# Altium schematic symbol library IND(1.5uH, 1.7A, 100mOhm, 140Mhz, SMD).SchLib: 1 symbol
Pins are listed as number, name and electrical type; pins without a type are passive.

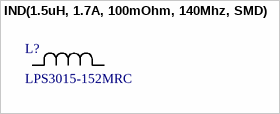
[diagram p0: symbol IND(1.5uH, 1.7A, 100mOhm, 140Mhz, SMD)]

## IND(1.5uH, 1.7A, 100mOhm, 140Mhz, SMD)
designator L?, comment LPS3015-152MRC
No Description Available; Manufacturer_Name: Coilcraft; Manufacturer_Part_Number: LPS3015-152MRC; Package: SMD; Datasheet: https://www.mouser.it/datasheet/3/995/1/lps3015.pdf; Digikey_Link: https://www.digikey.it/en/products/detail/coilcraft/LPS3015-152MRC/16816869?s=N4IgTCBcDaIDIAUDKBmADARgKwFptgFkAlAYRAF0BfIA
footprint IND_LPS3015_COC
pins: 1, 2